# Altium schematic symbol library CAP,POL.Schlib: 1 symbol
Pins are listed as number, name and electrical type; pins without a type are passive.

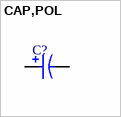
[diagram p0: symbol CAP,POL]

## CAP,POL
designator C?
pins: 1, 2